# Altium footprint library M20-9990246.PcbLib: 1 footprints
Each footprint in its own frame and in the unit in brackets; x right, y up, seen from the top. Pads: shape width x height; smd on the part's side, far side on the other; paste and mask are expansions set on the pad; w line width, h text height; cw(c..) or ccw(c..) is an arc to the next point about the centre after c.
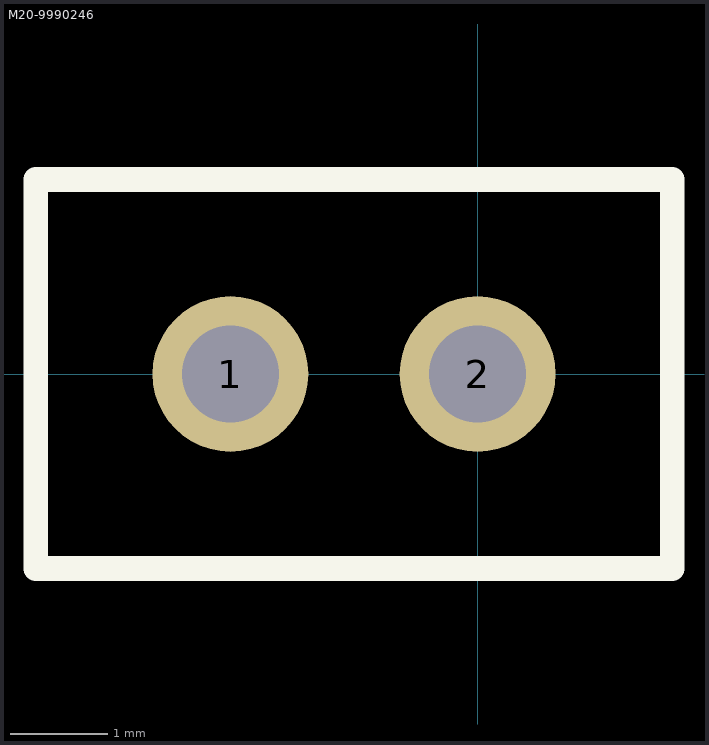
[diagram p0: the footprint, top view; thin cyan lines are the x and y axes]

## M20-9990246 [mm]
pads (2):
  round 1.6 hole 1: 1(-2.54,0) 2(0,0)
Top Overlay:
  lines w0.254: -4.54,-2 -4.54,2 2,2 2,-2 -4.54,-2